# Altium footprint library SD卡座封装 带自弹式.PcbLib: 1 footprints
Each footprint in its own frame and in the unit in brackets; x right, y up, seen from the top. Pads: shape width x height; smd on the part's side, far side on the other; paste and mask are expansions set on the pad; w line width, h text height; cw(c..) or ccw(c..) is an arc to the next point about the centre after c.
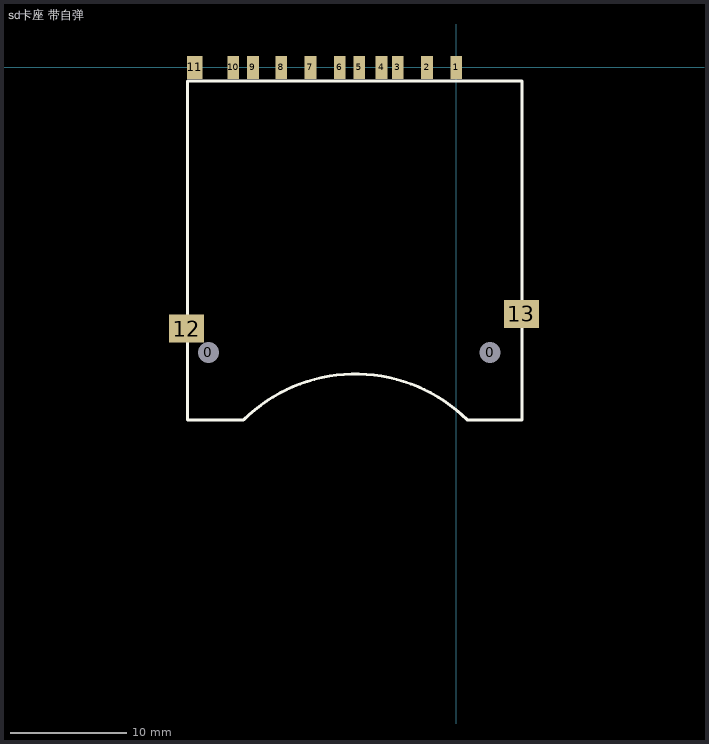
[diagram p0: the footprint, top view; thin cyan lines are the x and y axes]

## sd卡座 带自弹 [mm]
pads (15):
  round 1.524 hole 1.8: 0(-21.263,-24.443) 0(2.92,-24.443)
  rect 1x2 smd: 1(0,0) 2(-2.5,0) 3(-5,0) 4(-6.4,0) 5(-8.3,0) 6(-10,0) 7(-12.5,0) 8(-15,0) 9(-17.43,0) 10(-19.12,0)
  rect 1.3x2 smd: 11(-22.42,0)
  rect 3x2.4 smd: 12(-23.115,-22.411) 13(5.587,-21.141)
Top Overlay:
  lines w0.254: -18.283,-30.226 -23.055,-30.226 -23.055,-1.143 5.647,-1.143 5.647,-30.226 1.002,-30.226 ; -18.229,-30.226 cw(c-8.64,-39.941) 0.948,-30.226